# Altium schematic symbol library Mos_ST_Electronics_STD35P6LLF6_35A.SchLib: 1 symbol
Pins are listed as number, name and electrical type; pins without a type are passive.

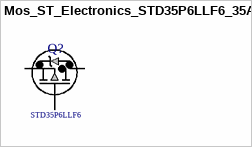
[diagram p0: symbol Mos_ST_Electronics_STD35P6LLF6_35A]

## Mos_ST_Electronics_STD35P6LLF6_35A
designator Q?  Series: STD35P6LLF6  (hidden comment: Mos_ST_Electronics_STD35P6LLF6_35A)
MOSFET P-channel 60 V, 0.025 Ohm typ., 35 A STripFET F6 Power MOSFET in a DPAK package; Supplier Part Number 1: 511-STD35P6LLF6; Supplier 1: Mouser
footprint Mos_ST_Electronics_STD35P6LLF6_35A
pins: 1 G, 2 D, 3 S